# EAGLE library part 691412220008 (library Wurth_Connectors_WR-TBL Spring Clamp)
WR-TBL Serie 4122 - 7.00 mm Screwless 45° Entry KIND PROPERTIES Pitch 7 mm MATERIAL PROPERTIES Insulator Material PA6/66 Insulator Flammability Rating UL94 V-0 Insulator Color Grey Contact Material Phosphor Bronze Contact Plating Tin Wire Guard Material Phosphor Bronze with Tin GENERAL INFORMATION Operating Temperature -30 up to +120 °C Compliance Lead free / RoHS ELECTRICAL PROPERTIES IR UL 4 A IR VDE 4 A Working Voltage [UL] 300 V (AC) Working Voltage [VDE] 750 V (AC) Withstanding Voltage [UL] 1600 V (AC) Withstanding Voltage [VDE] 2500 V (AC) Contact Resistance 20 mΩ Mechanical Properties Wire Strip Length 7 (mm) Wire Properties Solid Wire Section (AWG) 16 to 30 (AWG) Solid Wire Section (Metric) 1.31 to 0.05 (mm²) Stranded Wire Section (AWG) 16 to 30 (AWG) Stranded Wire Section (Metric) 1.31 to 0.05 (mm²) CERTIFICATION UL Approval E150931 Cat No. MRT24 (3) VDE Approval 40013441 Type MRT24 Packaging Properties Packaging Box <https://www.we-online.com/catalog/media/o84301v209%20Family_WR-TBL4_6914122200xx.jpg> Details see: https://www.we-online.com/catalog/en/TBL_7_00_4122_SCREWLESS_45-DEGREE_ENTRY_6914122200xx/ Updated by Ella Wu 2019-12-31 2019(C) Wurth Elektronik
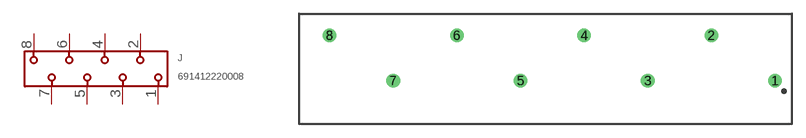
[diagram p16: symbol with the pads of 691412220008; footprint 691412220008]

Designator prefix J

## 691412220008 (DATASHEET-URL: https://www.we-online.com/redexpert/spec/691412220008?ae; IR-UL: 4A; IR-VDE: 4A; MOUNT: THT; PART-NUMBER: 691412220008; PINS: 8; PITCH: 7mm; TYPE: 45°; VALUE: 691412220008; WIRE: 16 to 30 (AWG) 1.31 to 0.05 (mm²); WORKING-VOLTAGE-UL: 300V (AC); WORKING-VOLTAGE-VDE: 750V (AC))  [691412220008]
1  1  pas
2  2  pas
3  3  pas
4  4  pas
5  5  pas
6  6  pas
7  7  pas
8  8  pas

## Footprint 691412220008 (pad centres in mm)
WR-TBL Serie 4122 - 7.00 mm Screwless 45° Entry Max Height = 13.2mm , Pitch 7mm , 8pins
drill 1: 1 24.5,-2.5; 2 17.5,2.5; 3 10.5,-2.5; 4 3.5,2.5; 5 -3.5,-2.5; 6 -10.5,2.5; 7 -17.5,-2.5; 8 -24.5,2.5